# Altium schematic symbol library HEADER-4PINM-2.54MM.SchLib: 1 symbol
Pins are listed as number, name and electrical type; pins without a type are passive.

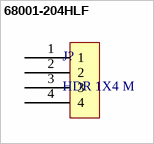
[diagram p0: symbol 68001-204HLF]

## 68001-204HLF
designator J?, comment HDR 1X4 M
Conn Unshrouded Header HDR 4 POS 2.54mm Solder ST Thru-Hole Bag; Manufacturer: Amphenol ICC; Manufacturer Part Number: 68001-204HLF; Supplier 1: Digi-Key; Stock 1: 836; Pricing 1: 1=0.42, 10=0.398, 100=0.2789, 500=0.239, 1000=0.1992, 5000=0.1707, 10000=0.1594 (USD); ComponentLink1URL: http://www.farnell.com/cad/2615197.pdf?src-supplier=Farnell; ComponentLink1Description: http://www.farnell.com/cad/2615197.pdf?src-supplier=Farnell; ComponentLink2URL: http://www.farnell.com/cad/2615197.pdf?src-supplier=Newark; ComponentLink2Description: http://www.farnell.com/cad/2615197.pdf?src-supplier=Newark; Supplier Part Number 1: 609-3402-ND
footprint HDR 1x4 M
pins: 1, 2, 3, 4